# Altium schematic symbol library SAMD5x.SchLib: 1 symbol
Pins are listed as number, name and electrical type; pins without a type are passive.

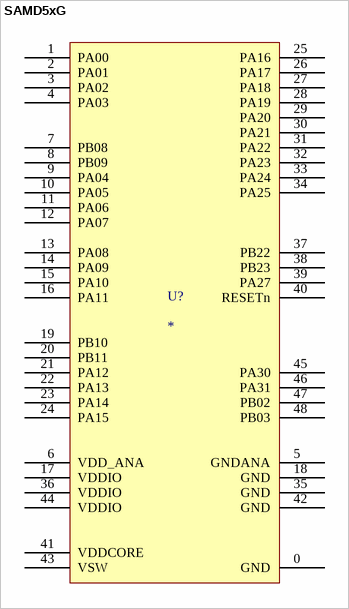
[diagram p0: symbol SAMD5xG]

## SAMD5xG
designator U?
Atmel / Microchip SAMD5xG VQFN48
footprint QFN50P700X700X90_HS-49N (QFN, 48-Leads, Body 7.00x7.00mm, Pitch 0.50mm, Thermal Pad 5.15x5.15mm, IPC Medium Density)
pins: 0 GND, 1 PA00, 2 PA01, 3 PA02, 4 PA03, 5 GNDANA, 6 VDD_ANA, 7 PB08, 8 PB09, 9 PA04, 10 PA05, 11 PA06, 12 PA07, 13 PA08, 14 PA09, 15 PA10, 16 PA11, 17 VDDIO, 18 GND, 19 PB10, 20 PB11, 21 PA12, 22 PA13, 23 PA14, 24 PA15, 25 PA16, 26 PA17, 27 PA18, 28 PA19, 29 PA20, 30 PA21, 31 PA22, 32 PA23, 33 PA24, 34 PA25, 35 GND, 36 VDDIO, 37 PB22, 38 PB23, 39 PA27, 40 RESETn, 41 VDDCORE, 42 GND, 43 VSW, 44 VDDIO, 45 PA30, 46 PA31, 47 PB02, 48 PB03